# Altium schematic symbol library Ind_TDK_MLG1005SR10JT000_100nH.SchLib: 1 symbol
Pins are listed as number, name and electrical type; pins without a type are passive.

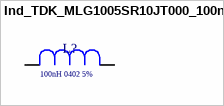
[diagram p0: symbol Ind_TDK_MLG1005SR10JT000_100nH]

## Ind_TDK_MLG1005SR10JT000_100nH
designator L?, comment Inductance: 100nH 0402 5%  (hidden comment: MLG1005SR10JT000)
Fixed Inductors 100nH 200mA 5%; Supplier Part Number 1: 810-MLG1005SR10JT000; Supplier 1: Mouser
footprint Ind_TDK_MLG1005SR10JT000_100nH
pins: 1, 2